# EAGLE library part TDS-1202L (library TDS-1202L)
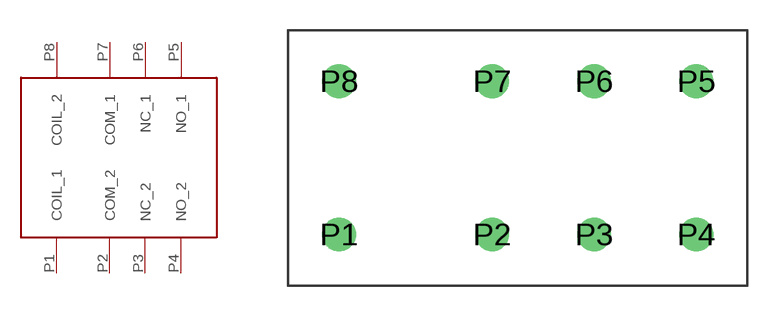
[diagram p0: symbol with the pads of TDS_1202L; footprint TDS_1202L]

Designator prefix -

## TDS-1202L  [TDS_1202L]
P1  COIL_1  in
P2  COM_2  in
P3  NC_2  out
P4  NO_2  out
P5  NO_1  out
P6  NC_1  out
P7  COM_1  in
P8  COIL_2  in

## Footprint TDS_1202L (pad centres in mm)
drill 0.5 pad 1.676: P1 -2.54,-2.54; P2 5.08,-2.54; P3 10.16,-2.54; P4 15.24,-2.54; P5 15.24,5.08; P6 10.16,5.08; P7 5.08,5.08; P8 -2.54,5.08